# EAGLE library part MCP4728A0T-E_UN (library SamacSys_Parts)
Digital to Analog Converters - DAC Quad, 12-bit NV DAC with I2C interface Source: Datasheet <http://ww1.microchip.com/downloads/en/DeviceDoc/22187E.pdf>
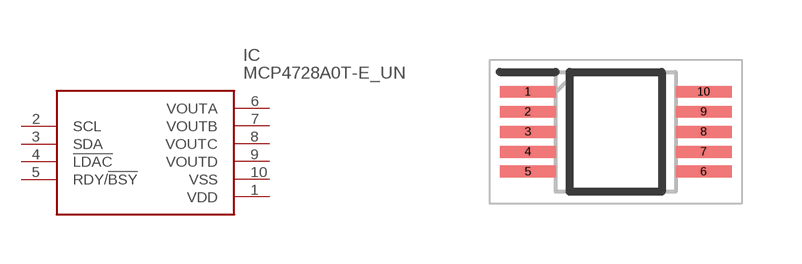
[diagram p10: symbol with the pads of SOP50P490X110-10N; footprint SOP50P490X110-10N]

Designator prefix IC

## MCP4728A0T-E_UN (ARROW_PART_NUMBER: MCP4728A0T-E/UN; ARROW_PRICE-STOCK: https://www.arrow.com/en/products/mcp4728a0t-eun/microchip-technology; DESCRIPTION: Digital to Analog Converters - DAC Quad, 12-bit NV DAC with I2C interface; HEIGHT: 1.1mm; MANUFACTURER_NAME: Microchip; MANUFACTURER_PART_NUMBER: MCP4728A0T-E/UN; MOUSER_PART_NUMBER: 579-MCP4728A0T-E/UN; MOUSER_PRICE-STOCK: https://www.mouser.co.uk/ProductDetail/Microchip-Technology/MCP4728A0T-E-UN?qs=X98pPdo4MrtnbTAIHQfB8A%3D%3D)  [SOP50P490X110-10N]
1  VDD  pwr
2  SCL  in
3  SDA
4  !LDAC  in
5  RDY/!BSY  out
6  VOUTA  out
7  VOUTB  out
8  VOUTC  out
9  VOUTD  out
10  VSS  pwr

## Footprint SOP50P490X110-10N (pad centres in mm)
INA226AQDGSRQ1
smd 1.4 x 0.3: 1 -2.2,1; 2 -2.2,0.5; 3 -2.2,0; 4 -2.2,-0.5; 5 -2.2,-1; 6 2.2,-1; 7 2.2,-0.5; 8 2.2,0; 9 2.2,0.5; 10 2.2,1